# Altium footprint library PcbLib1.PcbLib: 2 footprints
Each footprint in its own frame and in the unit in brackets; x right, y up, seen from the top. Pads: shape width x height; smd on the part's side, far side on the other; paste and mask are expansions set on the pad; w line width, h text height; cw(c..) or ccw(c..) is an arc to the next point about the centre after c.
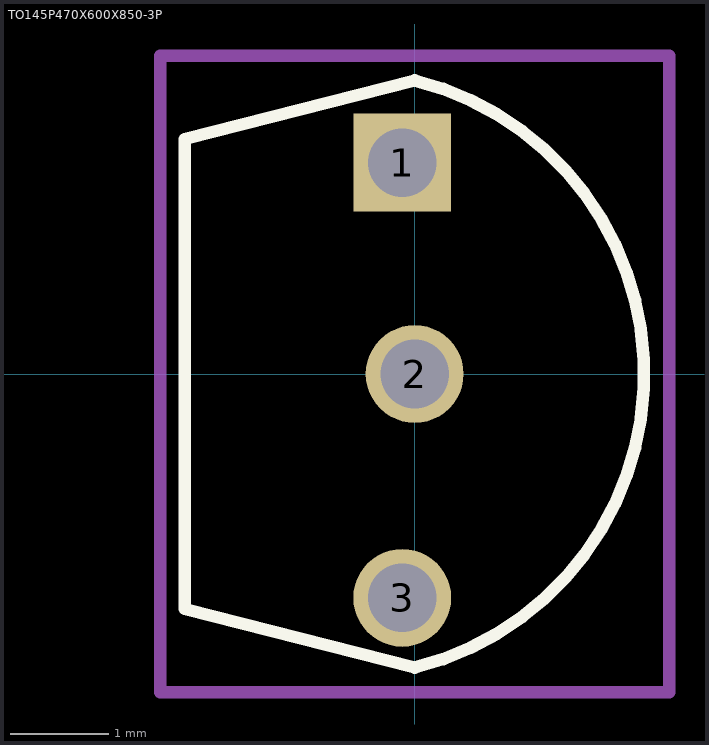
[diagram p0: the footprints below, top view; thin cyan lines are the x and y axes]

## PCBComponent_1 [mm]

## TO145P470X600X850-3P [mm]
height 2.8
pads (3):
  rect 1x1 hole 0.7: 1(-0.127,2.159)
  round 1 hole 0.7: 2(0,0) 3(-0.127,-2.286)
Top Overlay:
  lines w0.127: -2.35,-2.4 0,-3 ccw(c-0.748,0) 0,3 -2.35,2.4 -2.35,-2.4
Top Courtyard:
  lines w0.127: -2.6,-3.25 -2.6,3.25 2.6,3.25 2.6,-3.25 -2.6,-3.25